# EAGLE library part MCP2562-E/SN (library circuit_tree)
IC
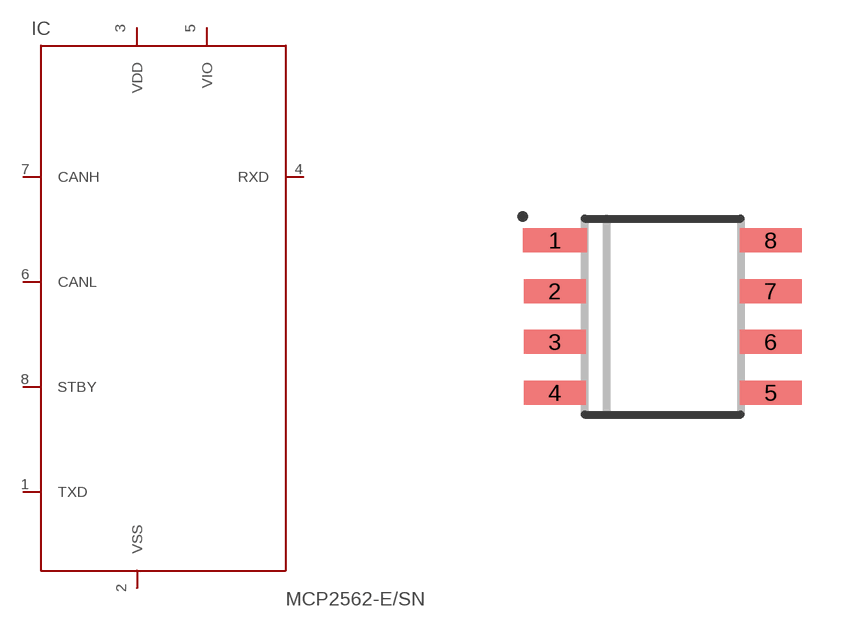
[diagram p10: symbol with the pads of SOIC-8; footprint SOIC-8]

Designator prefix IC

## MCP2562-E/SN  [SOIC-8]
1  TXD  pas
2  VSS  pas
3  VDD  pas
4  RXD  pas
5  VIO  pas
6  CANL  pas
7  CANH  pas
8  STBY  pas

## Footprint SOIC-8 (pad centres in mm)
smd 1.6 x 0.6: 1 -2.7,1.905
smd 1.55 x 0.6: 2 -2.7,0.635; 3 -2.7,-0.635; 4 -2.7,-1.905; 5 2.7,-1.905; 6 2.7,-0.635; 7 2.7,0.635; 8 2.7,1.905